# EAGLE library part 18P (library con-dg55)
DEGSON DG55 CONNECTOR
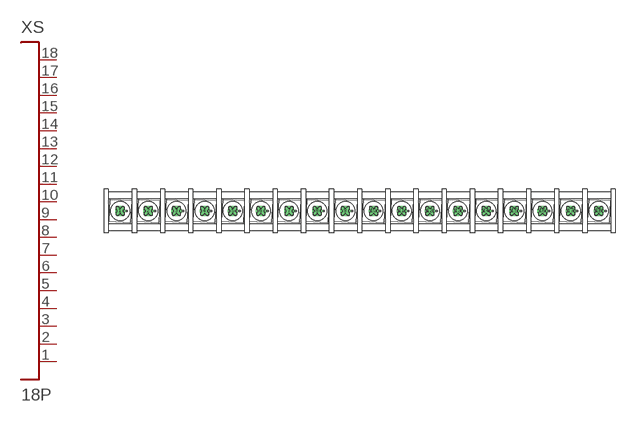
[diagram p12: symbol with the pads of DG55CB-18P-1; footprint DG55CB-18P-1]

Designator prefix XS

## 18P  [DG55CB-18P-1]
1  P$1
2  P$2
3  P$3
4  P$4
5  P$5
6  P$6
7  P$7
8  P$8
9  P$9
10  P$10
11  P$11
12  P$12
13  P$13
14  P$14
15  P$15
16  P$16
17  P$17
18  P$18

## Footprint DG55CB-18P-1 (pad centres in mm)
DG55
drill 1.8 pad 3.6: 1 -85,0; 2 -75,0; 3 -65,0; 4 -55,0; 5 -45,0; 6 -35,0; 7 -25,0; 8 -15,0; 9 -5,0; 10 5,0; 11 15,0; 12 25,0; 13 35,0; 14 45,0; 15 55,0; 16 65,0; 17 75,0; 18 85,0